# Altium footprint library HEADER_M_1x4_2.54_RA.PcbLib: 1 footprints
Each footprint in its own frame and in the unit in brackets; x right, y up, seen from the top. Pads: shape width x height; smd on the part's side, far side on the other; paste and mask are expansions set on the pad; w line width, h text height; cw(c..) or ccw(c..) is an arc to the next point about the centre after c.
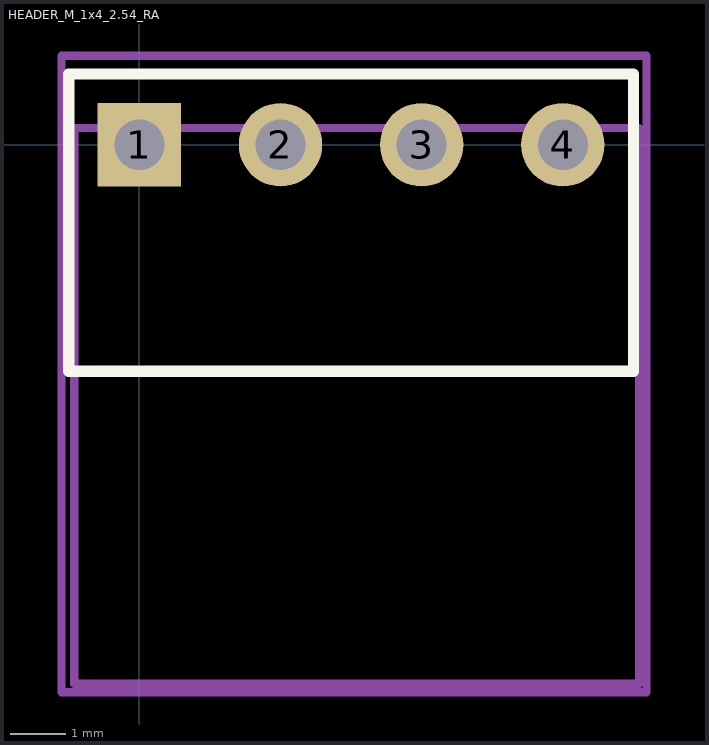
[diagram p0: the footprint, top view; thin cyan lines are the x and y axes]

## HEADER_M_1x4_2.54_RA [mm] "Connector; Header; 4 Position; Male"
pads (4):
  rect 1.5x1.5 hole 0.9: 1(0,0)
  round 1.5 hole 0.9: 2(2.54,0) 3(5.08,0) 4(7.62,0)
Top Overlay:
  lines w0.2: -1.27,-4.075 -1.27,1.27 8.89,1.27 8.89,-4.075 -1.27,-4.075
Top Assembly:
  lines w0.15: -1.17,-9.7 -1.17,0.3 8.99,0.3 8.99,-9.7 -1.17,-9.7
Top Courtyard:
  lines w0.15: -1.4,-9.85 9.125,-9.85 9.125,1.6 -1.4,1.6 -1.4,-9.85
3D body "m20-9750446_asm.stp": height 2.47, standoff -3.07, extent -1.2,-9.71 8.96,0.31